# EAGLE library part LED-TRICOLOR-5050 (library barthess)
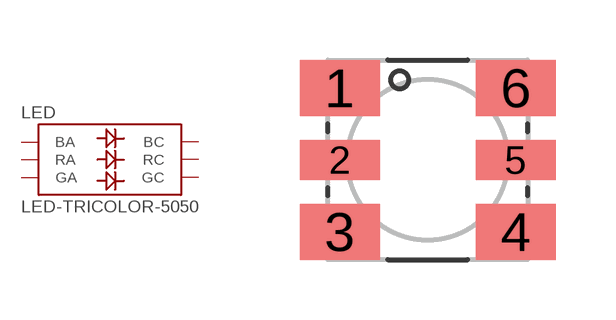
[diagram p34: symbol with the pads of LED-TRICOLOR-5050; footprint LED-TRICOLOR-5050]

Designator prefix LED

## LED-TRICOLOR-5050  [LED-TRICOLOR-5050]
1  BA
2  RA
3  GA
4  GC
5  RC
6  BC

## Footprint LED-TRICOLOR-5050 (pad centres in mm)
5050 SMD RGB LED 5.0mm x 5.0mm, 2.6mm thickness
smd 2 x 1.4: 1 -2.2,1.8; 3 -2.2,-1.8; 4 2.2,-1.8; 6 2.2,1.8
smd 2 x 1: 2 -2.2,0; 5 2.2,0